# Altium schematic symbol library wifi_ic.SchLib: 8 symbols
Pins are listed as number, name and electrical type; pins without a type are passive.

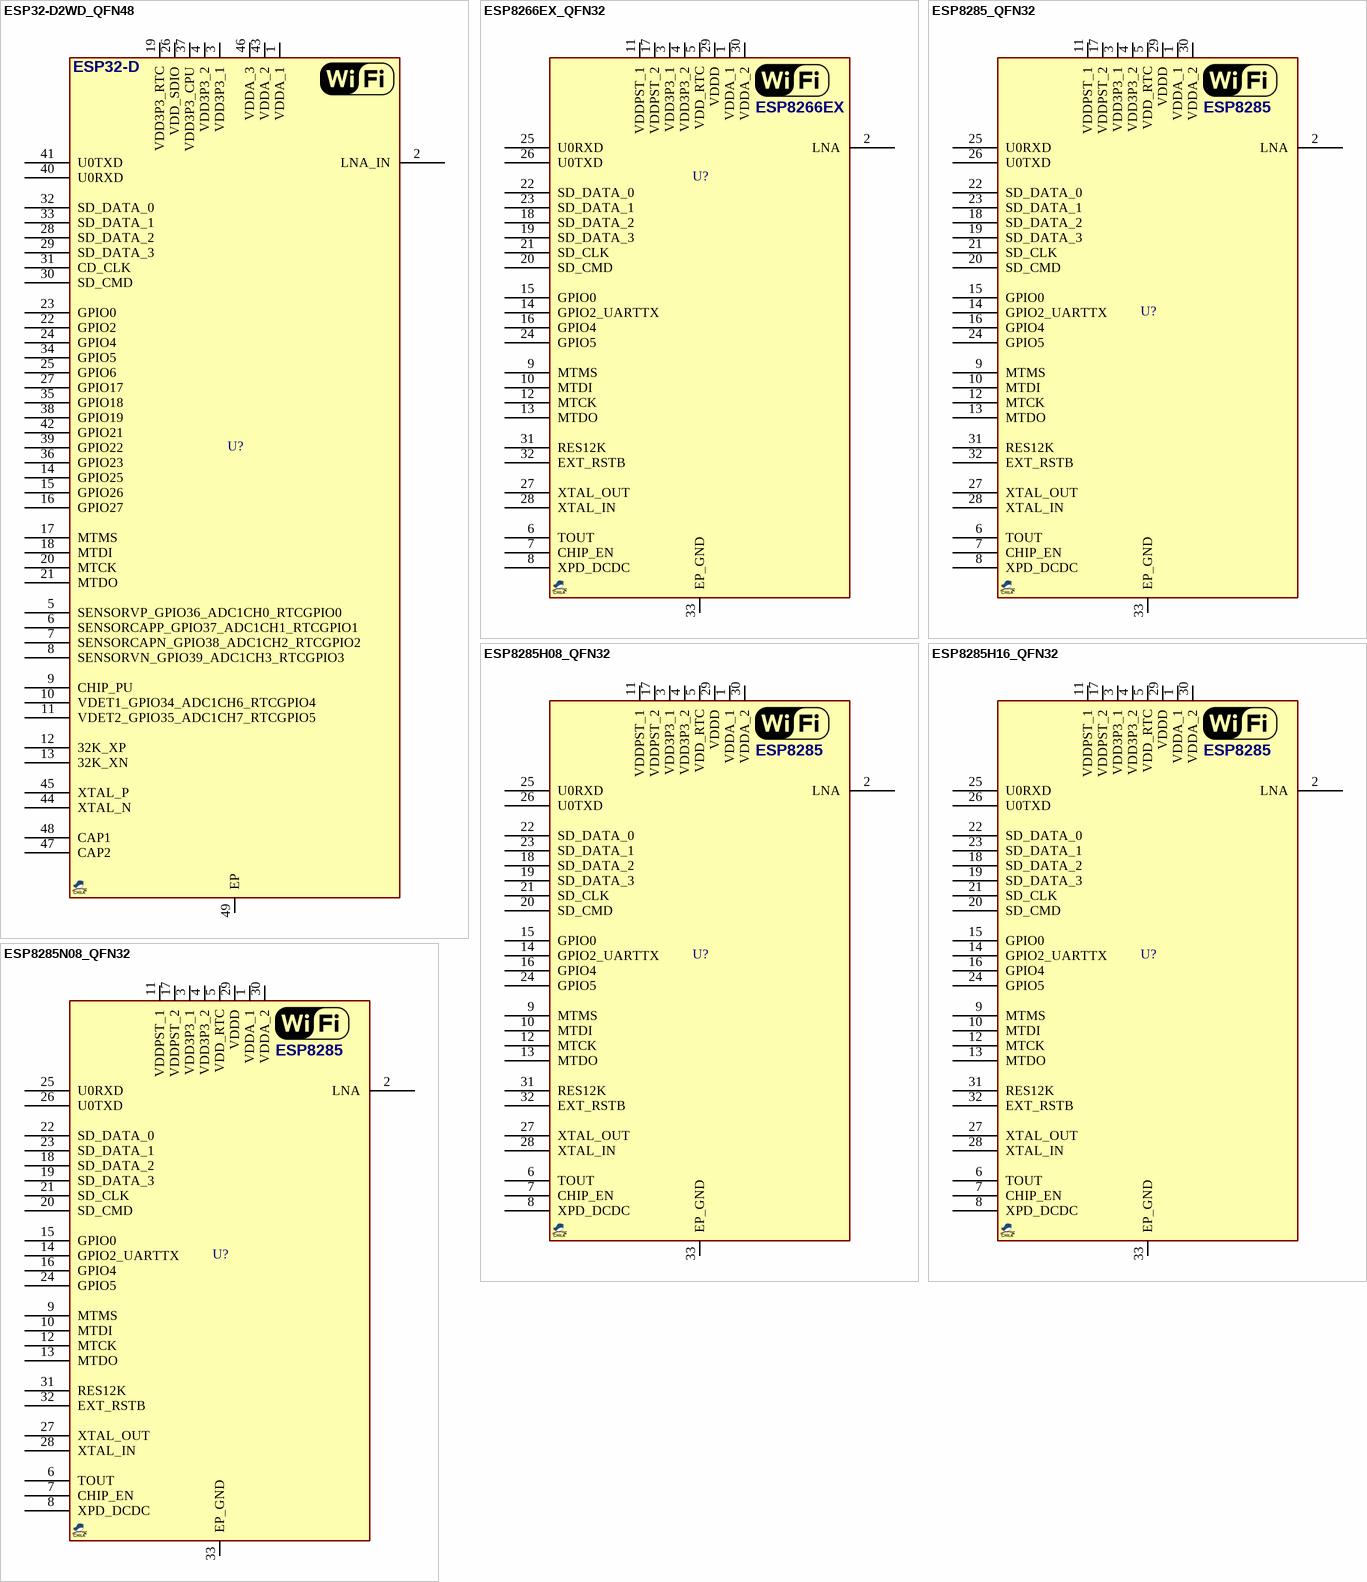
[diagram p0: symbols ESP32-D2WD_QFN48 to ESP8285N08_QFN32]

## ESP32-D2WD_QFN48
designator U?, comment ESP32-D2WD  (value not drawn)
ESP32-D2WD wifi IC; MANF: Espressif Systems; PARAM2: 2.3~3.6v, 1.8~3.6v; MANF_P#: ESP32-D2WD; PRICE: 3$; VALUE: ESP32-D2WD
footprint QFN35_48T_5X5 (QFN, 0.35mm pitch, 5x5mm)
pins: 1 VDDA_1, 2 LNA_IN, 3 VDD3P3_1, 4 VDD3P3_2, 5 SENSORVP_GPIO36_ADC1CH0_RTCGPIO0, 6 SENSORCAPP_GPIO37_ADC1CH1_RTCGPIO1, 7 SENSORCAPN_GPIO38_ADC1CH2_RTCGPIO2, 8 SENSORVN_GPIO39_ADC1CH3_RTCGPIO3, 9 CHIP_PU, 10 VDET1_GPIO34_ADC1CH6_RTCGPIO4, 11 VDET2_GPIO35_ADC1CH7_RTCGPIO5, 12 32K_XP, 13 32K_XN, 14 GPIO25, 15 GPIO26, 16 GPIO27, 17 MTMS, 18 MTDI, 19 VDD3P3_RTC, 20 MTCK, 21 MTDO, 22 GPIO2, 23 GPIO0, 24 GPIO4, 25 GPIO6, 26 VDD_SDIO, 27 GPIO17, 28 SD_DATA_2, 29 SD_DATA_3, 30 SD_CMD, 31 CD_CLK, 32 SD_DATA_0, 33 SD_DATA_1, 34 GPIO5, 35 GPIO18, 36 GPIO23, 37 VDD3P3_CPU, 38 GPIO19, 39 GPIO22, 40 U0RXD, 41 U0TXD, 42 GPIO21, 43 VDDA_2, 44 XTAL_N, 45 XTAL_P, 46 VDDA_3, 47 CAP2, 48 CAP1, 49 EP
text: ESP32-D

## ESP8266EX_QFN32
designator U?, comment ESP8266EX  (value not drawn)
ESP8266EX, RF SoC; MANF: Espressif Systems; PARAM2: 2.5~3.6v, 1.8~3.6v; MANF_P#: ESP8266EX; PRICE: 1.6$; VALUE: ESP8266EX
footprint QFN50_32T (QFN-32, RGJ, 5X5mm, 0.5mm)
pins: 1 VDDA_1, 2 LNA, 3 VDD3P3_1, 4 VDD3P3_2, 5 VDD_RTC, 6 TOUT, 7 CHIP_EN, 8 XPD_DCDC, 9 MTMS, 10 MTDI, 11 VDDPST_1, 12 MTCK, 13 MTDO, 14 GPIO2_UARTTX, 15 GPIO0, 16 GPIO4, 17 VDDPST_2, 18 SD_DATA_2, 19 SD_DATA_3, 20 SD_CMD, 21 SD_CLK, 22 SD_DATA_0, 23 SD_DATA_1, 24 GPIO5, 25 U0RXD, 26 U0TXD, 27 XTAL_OUT, 28 XTAL_IN, 29 VDDD, 30 VDDA_2, 31 RES12K, 32 EXT_RSTB, 33 EP_GND

## ESP8285_QFN32
designator U?, comment ESP8285  (value not drawn)
ESP8285, RF SoC, 54 Mbps; MANF: Espressif Systems; PARAM2: 3.3Vcc, 1.8~3.3Vio; PARAM: 1MB SPI flash, -40+125oC; MANF_P#: ESP8285; PRICE: 1$; VALUE: ESP8285
footprint QFN50_32T (QFN-32, RGJ, 5X5mm, 0.5mm)
pins: 1 VDDA_1, 2 LNA, 3 VDD3P3_1, 4 VDD3P3_2, 5 VDD_RTC, 6 TOUT, 7 CHIP_EN, 8 XPD_DCDC, 9 MTMS, 10 MTDI, 11 VDDPST_1, 12 MTCK, 13 MTDO, 14 GPIO2_UARTTX, 15 GPIO0, 16 GPIO4, 17 VDDPST_2, 18 SD_DATA_2, 19 SD_DATA_3, 20 SD_CMD, 21 SD_CLK, 22 SD_DATA_0, 23 SD_DATA_1, 24 GPIO5, 25 U0RXD, 26 U0TXD, 27 XTAL_OUT, 28 XTAL_IN, 29 VDDD, 30 VDDA_2, 31 RES12K, 32 EXT_RSTB, 33 EP_GND

## ESP8285H08_QFN32
designator U?, comment ESP8285H08  (value not drawn)
ESP8285, RF SoC, 72.2Mbps; MANF: Espressif Systems; PARAM2: 3.3Vcc, 1.8~3.3Vio; PARAM: 1MB SPI flash, -40+105oC; MANF_P#: ESP8285H08; PRICE: 1.2$; VALUE: ESP8285H08
footprint QFN50_32T (QFN-32, RGJ, 5X5mm, 0.5mm)
pins: 1 VDDA_1, 2 LNA, 3 VDD3P3_1, 4 VDD3P3_2, 5 VDD_RTC, 6 TOUT, 7 CHIP_EN, 8 XPD_DCDC, 9 MTMS, 10 MTDI, 11 VDDPST_1, 12 MTCK, 13 MTDO, 14 GPIO2_UARTTX, 15 GPIO0, 16 GPIO4, 17 VDDPST_2, 18 SD_DATA_2, 19 SD_DATA_3, 20 SD_CMD, 21 SD_CLK, 22 SD_DATA_0, 23 SD_DATA_1, 24 GPIO5, 25 U0RXD, 26 U0TXD, 27 XTAL_OUT, 28 XTAL_IN, 29 VDDD, 30 VDDA_2, 31 RES12K, 32 EXT_RSTB, 33 EP_GND
text: ESP8285

## ESP8285H16_QFN32
designator U?, comment ESP8285  (value not drawn)
ESP8285, RF SoC, 72.2Mbps; MANF: Espressif Systems; MANF_P#: ESP8285H16; PARAM2: 3.3Vcc, 1.8~3.3Vio; PARAM: 2MB SPI flash, -40+105oC; PRICE: 2$; VALUE: ESP8285
footprint QFN50_32T (QFN-32, RGJ, 5X5mm, 0.5mm)
pins: 1 VDDA_1, 2 LNA, 3 VDD3P3_1, 4 VDD3P3_2, 5 VDD_RTC, 6 TOUT, 7 CHIP_EN, 8 XPD_DCDC, 9 MTMS, 10 MTDI, 11 VDDPST_1, 12 MTCK, 13 MTDO, 14 GPIO2_UARTTX, 15 GPIO0, 16 GPIO4, 17 VDDPST_2, 18 SD_DATA_2, 19 SD_DATA_3, 20 SD_CMD, 21 SD_CLK, 22 SD_DATA_0, 23 SD_DATA_1, 24 GPIO5, 25 U0RXD, 26 U0TXD, 27 XTAL_OUT, 28 XTAL_IN, 29 VDDD, 30 VDDA_2, 31 RES12K, 32 EXT_RSTB, 33 EP_GND

## ESP8285N08_QFN32
designator U?, comment ESP8285N08  (value not drawn)
ESP8285, RF SoC, 72.2Mbps; MANF: Espressif Systems; PARAM2: 3.3Vcc, 1.8~3.3Vio; PARAM: 1MB SPI flash, -40+85oC; MANF_P#: ESP8285N08; PRICE: 1.2$; VALUE: ESP8285N08
footprint QFN50_32T (QFN-32, RGJ, 5X5mm, 0.5mm)
pins: 1 VDDA_1, 2 LNA, 3 VDD3P3_1, 4 VDD3P3_2, 5 VDD_RTC, 6 TOUT, 7 CHIP_EN, 8 XPD_DCDC, 9 MTMS, 10 MTDI, 11 VDDPST_1, 12 MTCK, 13 MTDO, 14 GPIO2_UARTTX, 15 GPIO0, 16 GPIO4, 17 VDDPST_2, 18 SD_DATA_2, 19 SD_DATA_3, 20 SD_CMD, 21 SD_CLK, 22 SD_DATA_0, 23 SD_DATA_1, 24 GPIO5, 25 U0RXD, 26 U0TXD, 27 XTAL_OUT, 28 XTAL_IN, 29 VDDD, 30 VDDA_2, 31 RES12K, 32 EXT_RSTB, 33 EP_GND
text: ESP8285

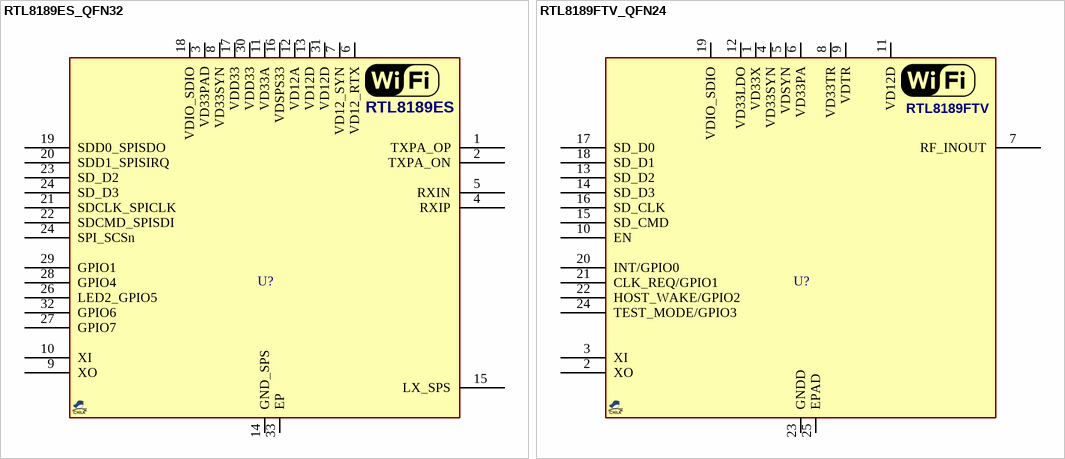
[diagram p1: symbols RTL8189ES_QFN32 to RTL8189FTV_QFN24]

## RTL8189ES_QFN32
designator U?, comment RTL8189ES  (value not drawn)
RTL8189ES, RF SoC, SDIO, 72.2Mbps; MANF: Realtek; PARAM2: 1.2Vcore, 3.3Vcc, 1.8~3.3Vio; PARAM: SDIO, 72.2Mbps, -40+70oC; MANF_P#: RTL8189ES; PRICE: 1$; VALUE: RTL8189ES
footprint QFN50_32T (QFN-32, RGJ, 5X5mm, 0.5mm)
pins: 1 TXPA_OP, 2 TXPA_ON, 3 VD33PAD, 4 RXIP, 5 RXIN, 6 VD12_RTX, 7 VD12_SYN, 8 VD33SYN, 9 XO, 10 XI, 11 VD33A, 12 VD12A, 13 VD12D, 14 GND_SPS, 15 LX_SPS, 16 VDSPS33, 17 VDD33, 18 VDIO_SDIO, 19 SDD0_SPISDO, 20 SDD1_SPISIRQ, 21 SDCLK_SPICLK, 22 SDCMD_SPISDI, 23 SD_D2, 24 SD_D3, 24 SPI_SCSn, 26 LED2_GPIO5, 27 GPIO7, 28 GPIO4, 29 GPIO1, 30 VDD33, 31 VD12D, 32 GPIO6, 33 EP

## RTL8189FTV_QFN24
designator U?, comment RTL8189FTV  (value not drawn)
RTL8189ES, RF SoC, SDIO, 72.2Mbps; MANF: Realtek; PARAM2: 1.2Vcore, 3.3Vcc, 1.8~3.3Vio; PARAM: SDIO, 72.2Mbps, -40+70oC; MANF_P#: RTL8189FTV; PRICE: 1$; VALUE: RTL8189FTV
footprint QFN50_24T (RTW, RGE S-PQFP-N24 (TI), HVQFN24, 4X4mm, 0.5mm, MO-220 (JEDEC))
pins: 1 VD33X, 2 XO, 3 XI, 4 VD33SYN, 5 VDSYN, 6 VD33PA, 7 RF_INOUT, 8 VD33TR, 9 VDTR, 10 EN, 11 VD12D, 12 VD33LDO, 13 SD_D2, 14 SD_D3, 15 SD_CMD, 16 SD_CLK, 17 SD_D0, 18 SD_D1, 19 VDIO_SDIO, 20 INT/GPIO0, 21 CLK_REQ/GPIO1, 22 HOST_WAKE/GPIO2, 23 GNDD, 24 TEST_MODE/GPIO3, 25 EPAD